# Altium integrated library IC - Buffers and Latches.IntLib: 1 symbol
Pins are listed as number, name and electrical type; pins without a type are passive.

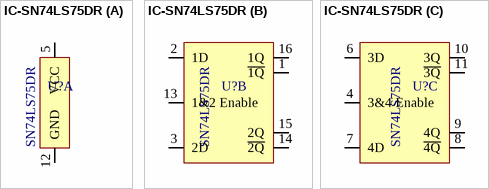
[diagram p0: symbol IC-SN74LS75DR]

## IC-SN74LS75DR
designator U?, comment SN74LS75DR
D-Type Transparent Latch 4 Channel 1:1 IC Differential 16-SOIC; Manufacturer: Texas Instruments; Max Propagation Delay: 9nS; Output Current (High/Low): 400µA/8mA; Supply Voltage: 4.75V-5.25V; ComponentLink1Description: Datasheet; Output Type: Differential; Logic Type: D-Type Transparent Latch; PackageDescription: SOIC, 16-Leads, Body 9.90x3.90mm, Pitch 1.27mm, IPC Low Density; Package Reference: SOIC-16; Supplier 1: Digi-Key; Supplier Part Number 1: 296-38245-6-ND; Supplier 2: Digi-Key; Supplier Part Number 2: 296-38245-1-ND; Part Number: SN74LS75DR
footprint SOIC-16 (SOIC, 16-Leads, Body 9.90x3.90mm, Pitch 1.27mm, IPC Low Density)
part A pins: 5 VCC (power), 12 GND (power)
part B pins: 1 ~{1Q}, 2 1D, 3 2D, 13 1&2 Enable, 14 ~{2Q}, 15 2Q, 16 1Q
part C pins: 4 3&4 Enable, 6 3D, 7 4D, 8 ~{4Q}, 9 4Q, 10 3Q, 11 ~{3Q}